# Altium schematic symbol library AD5940BCBZ-RL.SchLib: 1 symbol
Pins are listed as number, name and electrical type; pins without a type are passive.

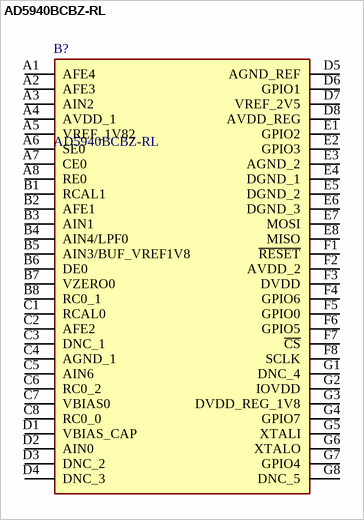
[diagram p0: symbol AD5940BCBZ-RL]

## AD5940BCBZ-RL
designator B?
1 Channel AFE 16 Bit 56-WLCSP (3.56x4.16); Manufacturer_Name: Analog Devices; Geometry.Height: 0.55mm; Manufacturer_Part_Number: AD5940BCBZ-RL; Mouser Part Number: 584-AD5940BCBZ-RL; Mouser Price/Stock: https://www.mouser.co.uk/ProductDetail/Analog-Devices/AD5940BCBZ-RL?qs=MLItCLRbWsy43l4k5gcZVQ%3D%3D; Arrow Part Number: AD5940BCBZ-RL; Arrow Price/Stock: https://www.arrow.com/en/products/ad5940bcbz-rl/analog-devices?utm_currency=USD&region=nac; Datasheet Link: https://www.analog.com/media/en/technical-documentation/data-sheets/AD5940-5941.pdf
footprint BGA56C40P8X7_416X356X55
pins: A1 AFE4, A2 AFE3, A3 AIN2, A4 AVDD_1, A5 VREF_1V82, A6 SE0, A7 CE0, A8 RE0, B1 RCAL1, B2 AFE1, B3 AIN1, B4 AIN4/LPF0, B5 AIN3/BUF_VREF1V8, B6 DE0, B7 VZERO0, B8 RC0_1, C1 RCAL0, C2 AFE2, C3 DNC_1, C4 AGND_1, C5 AIN6, C6 RC0_2, C7 VBIAS0, C8 RC0_0, D1 VBIAS_CAP, D2 AIN0, D3 DNC_2, D4 DNC_3, D5 AGND_REF, D6 GPIO1, D7 VREF_2V5, D8 AVDD_REG, E1 GPIO2, E2 GPIO3, E3 AGND_2, E4 DGND_1, E5 DGND_2, E6 DGND_3, E7 MOSI, E8 MISO, F1 ~{RESET}, F2 AVDD_2, F3 DVDD, F4 GPIO6, F5 GPIO0, F6 GPIO5, F7 ~{CS}, F8 SCLK, G1 DNC_4, G2 IOVDD, G3 DVDD_REG_1V8, G4 GPIO7, G5 XTALI, G6 XTALO, G7 GPIO4, G8 DNC_5